# EAGLE library part TDA1555Q (library Audio-Power-amlifier V.2.0)
The TDA1555Q contains four identical amplifiers with differential input stages (two inverting and two non-inverting) and can be used for single-ended or bridge applications. The gain of each amplifier is fixed at 20 dB (26 dB in BTL). Special features of this device are:
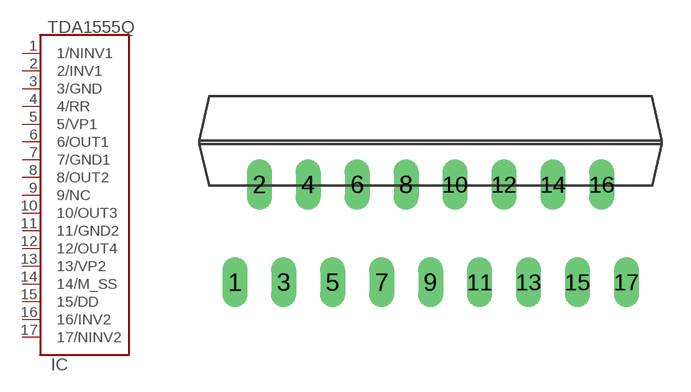
[diagram p230: symbol with the pads of SOT243-1; footprint SOT243-1]

Designator prefix IC

## TDA1555Q  [SOT243-1]
1  1/NINV1  in
2  2/INV1  in
3  3/GND  pwr
4  4/RR  in
5  5/VP1  pwr
6  6/OUT1  out
7  7/GND1  pwr
8  8/OUT2  out
9  9/NC  nc
10  10/OUT3  out
11  11/GND2  pwr
12  12/OUT4  out
13  13/VP2  pwr
14  14/M_SS  in
15  15/DD  in
16  16/INV2  in
17  17/NINV2  in

## Footprint SOT243-1 (pad centres in mm)
DBS17P: plastic DIL-bent-SIL power package; 17 leads (lead length 7.7 mm)
drill 0.8 long: 1 -10.16,-5.08; 2 -8.89,0; 3 -7.62,-5.08; 4 -6.35,0; 5 -5.08,-5.08; 6 -3.81,0; 7 -2.54,-5.08; 8 -1.27,0; 9 0,-5.08; 10 1.27,0; 11 2.54,-5.08; 12 3.81,0; 13 5.08,-5.08; 14 6.35,0; 15 7.62,-5.08; 16 8.89,0; 17 10.17,-5.08